# Altium schematic symbol library MF-MSMF050-2.SchLib: 1 symbol
Pins are listed as number, name and electrical type; pins without a type are passive.

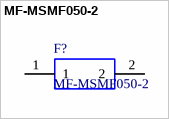
[diagram p0: symbol MF-MSMF050-2]

## MF-MSMF050-2
designator F?
Fuse, PTC, Resettable, SMD, 1812, 500mA Bourns 0.5A Surface Mount Resettable Fuse, 15 V; Allied_Number: 70153466; Geometry.Height: 0.85mm; Manufacturer_Name: Bourns; Manufacturer_Part_Number: MF-MSMF050-2; RS Part Number: 6478156P; RS Price/Stock: http://uk.rs-online.com/web/p/products/6478156P; Allied Price/Stock: https://www.alliedelec.com/bourns-mf-msmf050-2/70153466/; Arrow Part Number: MF-MSMF050-2; Arrow Price/Stock: https://www.arrow.com/en/products/mf-msmf050-2/bourns; Datasheet Link: https://www.bourns.com/pdfs/mfmsmf.pdf
footprint FUSC4632X85N
pins: 1, 2